# Altium schematic symbol library Freescale.SchLib: 1 symbol
Pins are listed as number, name and electrical type; pins without a type are passive.

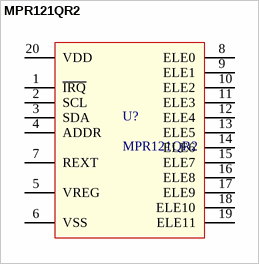
[diagram p0: symbol MPR121QR2]

## MPR121QR2
designator U?
footprint QFN40P300-20N (QFN, 20-Leads, Body 3x3mm, Pitch 0.4mm)
pins: 1 ~{IRQ}, 2 SCL, 3 SDA, 4 ADDR, 5 VREG, 6 VSS (power), 7 REXT, 8 ELE0, 9 ELE1, 10 ELE2, 11 ELE3, 12 ELE4, 13 ELE5, 14 ELE6, 15 ELE7, 16 ELE8, 17 ELE9, 18 ELE10, 19 ELE11, 20 VDD (power)